# EAGLE library part FGPMMOPA6E (library gps-gsm)
66-channel GPS Engine Board
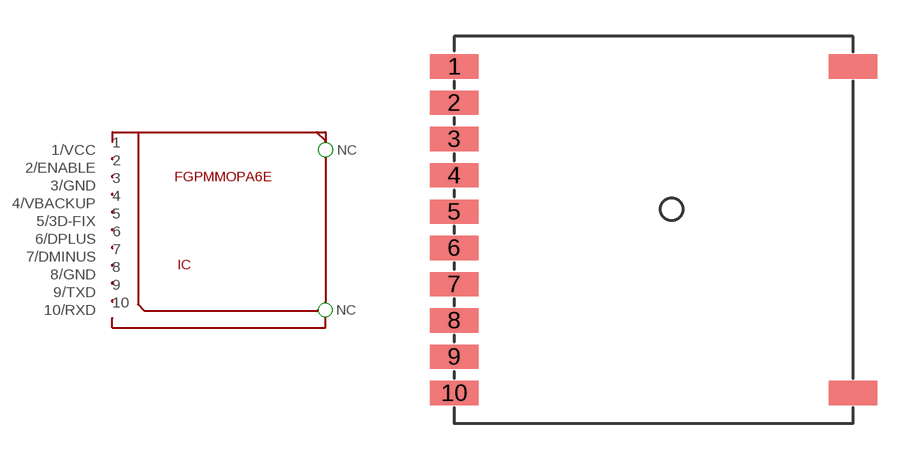
[diagram p13: symbol with the pads of FGPMMOPA6E; footprint FGPMMOPA6E]

Designator prefix IC

## FGPMMOPA6E  [FGPMMOPA6E]
1  1/VCC  pwr
2  2/ENABLE
3  3/GND  pwr
4  4/VBACKUP
5  5/3D-FIX
6  6/DPLUS
7  7/DMINUS
8  8/GND  pwr
9  9/TXD
10  10/RXD

## Footprint FGPMMOPA6E (pad centres in mm)
smd 2 x 1: 1 -8.5,6.75; 2 -8.5,5.25; 3 -8.5,3.75; 4 -8.5,2.25; 5 -8.5,0.75; 6 -8.5,-0.75; 7 -8.5,-2.25; 8 -8.5,-3.75; 9 -8.5,-5.25; 10 -8.5,-6.75